# EAGLE library part SN65HVD232D (library Misaka-IC)
3.3V CAN Bus Transceiver Supply voltage: 3...3.6V Max rate: 1Mbps
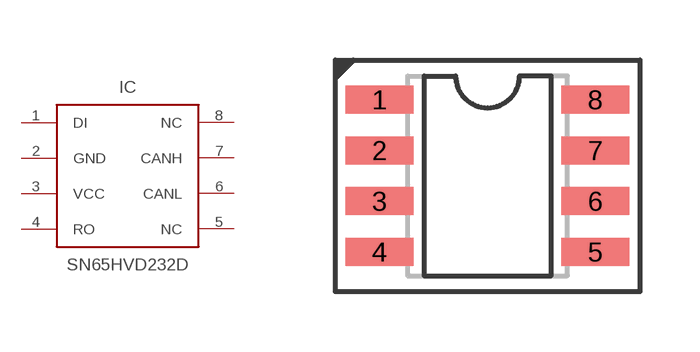
[diagram p7: symbol with the pads of SO-8; footprint SO-8]

Designator prefix IC

## SN65HVD232D  [SO-8]
1  DI
2  GND
3  VCC
4  RO
5  NC
6  CANL
7  CANH
8  NC

## Footprint SO-8 (pad centres in mm)
Small-Outline Integrated Circuit 150 mil body
smd 1.7 x 0.7: 1 -2.7,1.905; 2 -2.7,0.635; 3 -2.7,-0.635; 4 -2.7,-1.905; 5 2.7,-1.905; 6 2.7,-0.635; 7 2.7,0.635; 8 2.7,1.905